# Altium footprint library ARES_R30_Power.PcbLib: 67 footprints (part 3 of 5)
Each footprint in its own frame and in the unit in brackets; x right, y up, seen from the top. Pads: shape width x height; smd on the part's side, far side on the other; paste and mask are expansions set on the pad; w line width, h text height; cw(c..) or ccw(c..) is an arc to the next point about the centre after c.
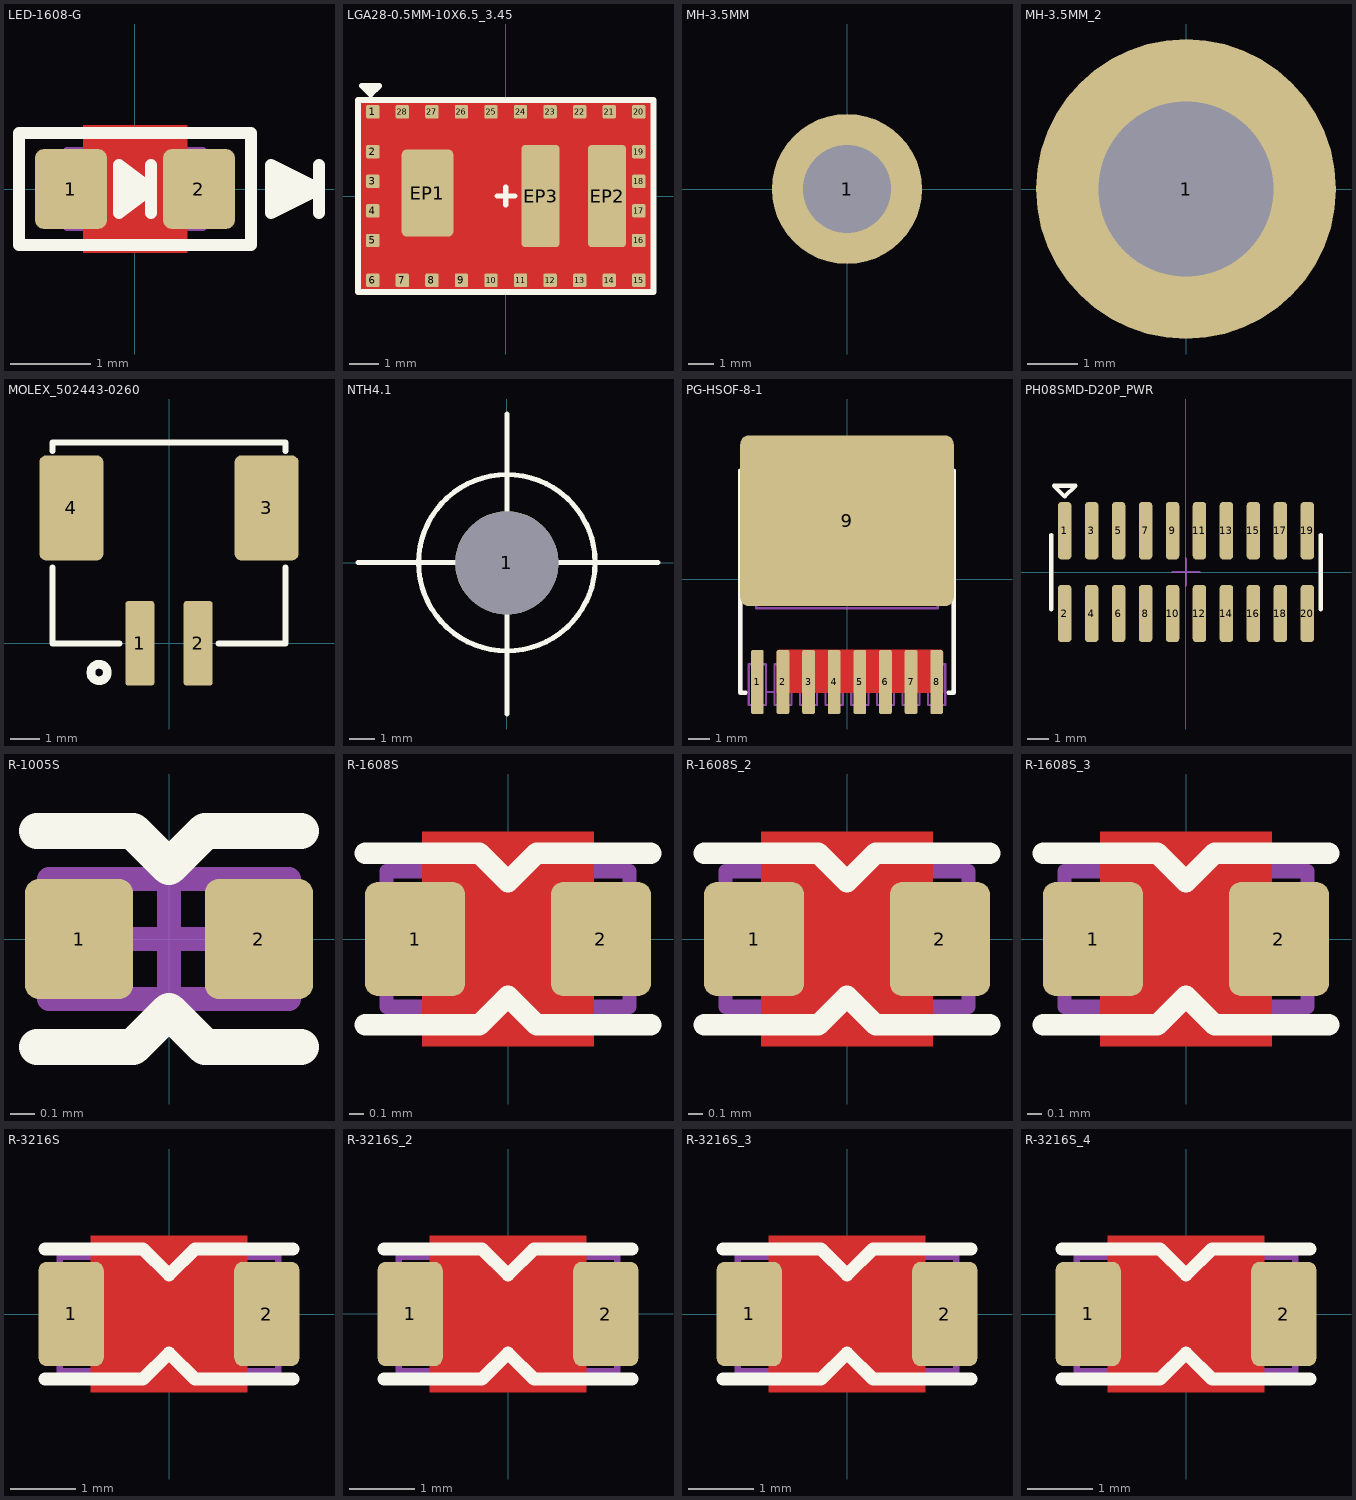
[diagram p2: the footprints below, top view; thin cyan lines are the x and y axes]

## LED-1608-G [mm] "Green"
height 0.6
pads (2):
  rrect25% 0.9x1 smd: 1(-0.8,0) 2(0.8,0)
Top Layer:
  pour cut-out: -0.65,0.8 0.65,0.8 0.65,-0.8 -0.65,-0.8
Top Overlay:
  region: 1.7,0.3 1.7,-0.3 2.3,0
  region: 0.2,0 -0.2,0.3 -0.2,-0.3
  lines w0.15: 0.2,-0.3 0.2,0.3 ; 2.3,-0.3 2.3,0.3 ; -1.45,-0.7 -1.45,0.7 1.45,0.7 1.45,-0.7 -1.45,-0.7 ; -0.2,-0.3 0.2,0 -0.2,0.3 -0.2,-0.3 ; 1.7,-0.3 1.7,0.3 2.3,0 1.7,-0.3
Mechanical 11:
  lines w0.1: -0.85,-0.475 -0.85,0.475 0.85,0.475 0.85,-0.475 -0.85,-0.475
Mechanical 15:
  lines w0.1: -0.475,0 0.475,0 ; 0,-0.475 0,0.475
3D body: height 0.2, standoff 0, extent 0.5,-0.4 0.8,0.4
3D body: height 0.2, standoff 0, extent -0.8,-0.4 -0.5,0.4
3D body: height 0.4, standoff 0.2, extent -0.5,-0.4 0.5,0.4
3D body: height 0.2, standoff 0, extent -0.5,-0.4 0.5,0.4

## LGA28-0.5MM-10X6.5_3.45 [mm]
pads (31):
  rrect20% 0.45x0.45 smd: 1(-4.5,2.85) 2(-4.5,1.5) 3(-4.5,0.5) 4(-4.5,-0.5) 5(-4.5,-1.5) 6(-4.5,-2.85) 7(-3.5,-2.85) 8(-2.5,-2.85) 9(-1.5,-2.85) 10(-0.5,-2.85) 11(0.5,-2.85) 12(1.5,-2.85) 13(2.5,-2.85) 14(3.5,-2.85) 15(4.5,-2.85) 16(4.5,-1.5) 17(4.5,-0.5) 18(4.5,0.5) 19(4.5,1.5) 20(4.5,2.85) 21(3.5,2.85) 22(2.5,2.85) 23(1.5,2.85) 24(0.5,2.85) 25(-0.5,2.85) 26(-1.5,2.85) 27(-2.5,2.85) 28(-3.5,2.85)
  rrect20% 1.75x2.95 smd: EP1(-2.65,0.1)
  rrect20% 1.3x3.45 smd: EP2(3.425,0) EP3(1.175,0)
Top Layer:
  pour cut-out: -5,3.25 -5,-3.25 5,-3.25 5,3.25
Top Overlay:
  lines w0.18: -4.572,3.529 -4.572,3.649 ; -0.3,0 0.3,0 ; 0,-0.3 0,0.3 ; -4.872,3.729 -4.572,3.429 -4.272,3.729 -4.872,3.729
  lines w0.2: -5,-3.25 5,-3.25 5,3.25 -5,3.25 -5,-3.25

## MH-3.5MM [mm]
pads (1):
  round 6 hole 3.5: 1(0,0)
Multi-Layer:
  pour cut-out: 0,6 -0.295,6 -0.881,5.942 -1.46,5.827 -2.024,5.656 -2.568,5.43 -3.088,5.153 -3.579,4.825 -4.034,4.451 -4.451,4.034 -4.825,3.579 -5.153,3.088 -5.43,2.568 -5.656,2.024 -5.827,1.46 -5.942,0.881 -6,0.295 -6,0 -6,-0.295 -5.942,-0.881 -5.827,-1.46 -5.656,-2.024 -5.43,-2.568 -5.153,-3.088 -4.825,-3.579 -4.451,-4.034 -4.034,-4.451 -3.579,-4.825 -3.088,-5.153 -2.568,-5.43 -2.024,-5.656 -1.46,-5.827 -0.881,-5.942 -0.295,-6 0,-6 0.295,-6 0.881,-5.942 1.46,-5.827 2.024,-5.656 2.568,-5.43 3.088,-5.153 3.579,-4.825 4.034,-4.451 4.451,-4.034 4.825,-3.579 5.153,-3.088 5.43,-2.568 5.656,-2.024 5.827,-1.46 5.942,-0.881 6,-0.295 6,0 6,0.295 5.942,0.881 5.827,1.46 5.656,2.024 5.43,2.568 5.153,3.088 4.825,3.579 4.451,4.034 4.034,4.451 3.579,4.825 3.088,5.153 2.568,5.43 2.024,5.656 1.46,5.827 0.881,5.942 0.295,6
3D body "bolt_3mm.stp": height 1.96, standoff -6, extent -2.75,-2.75 2.75,2.75

## MH-3.5MM_2 [mm]
pads (1):
  round 6 hole 3.5: 1(0,0)
3D body "bolt_3mm.stp": height 1.96, standoff -6, extent -2.75,-2.75 2.75,2.75

## MOLEX_502443-0260 [mm]
pads (4):
  rrect20% 1x2.9 smd: 1(-1,0) 2(1,0)
  rrect20% 2.2x3.6 smd: 3(3.35,4.65) 4(-3.35,4.65)
Top Overlay:
  circle w0.3: c-2.4,-1 r0.283
  lines w0.2: -4,2.6 -4,0 -1.7,0 ; -4,6.6 -4,6.9 4,6.9 4,6.6 ; 1.7,0 4,0 4,2.6
3D body "5024430260.stp": height 7.53, standoff 0.03, extent -4,-0.95 4,6.9

## NTH4.1 [mm]
height 4
pads (1):
  round 4.1 hole 4.1 unplated: 1(0,-0.008)
Top Overlay:
  circle w0.203: c0,0 r3.5
  lines w0.2: -5.908,0.008 5.992,0.008 ; 0.008,-6 0.008,5.9
Multi-Layer:
  pour cut-out: 0.008,5.05 -0.001,5.05 0.327,5.05 0.977,4.964 1.61,4.795 2.216,4.544 2.783,4.216 3.303,3.817 3.767,3.353 4.166,2.833 4.494,2.266 4.745,1.66 4.914,1.027 5,0.377 5,0.049 5,-0.058 5,-0.385 4.915,-1.034 4.745,-1.666 4.495,-2.271 4.168,-2.837 3.769,-3.357 3.307,-3.819 2.787,-4.218 2.221,-4.545 1.616,-4.795 0.984,-4.965 0.335,-5.05 0.008,-5.05 -0.32,-5.05 -0.971,-4.964 -1.605,-4.794 -2.212,-4.543 -2.78,-4.215 -3.301,-3.815 -3.765,-3.351 -4.165,-2.83 -4.493,-2.262 -4.744,-1.655 -4.914,-1.021 -5,-0.37 -5,-0.042 -5,0.042 -5,0.37 -4.914,1.021 -4.744,1.655 -4.493,2.262 -4.165,2.83 -3.765,3.351 -3.301,3.815 -2.78,4.215 -2.212,4.543 -1.605,4.794 -0.971,4.964 -0.32,5.05
3D body: height 4, standoff 0, extent -2.78,-2.777 2.78,2.777

## PG-HSOF-8-1 [mm] "OptiMOSTM Power-Transistor"
height 2.3
pads (9):
  rrect30% 0.6x3 smd: 1(-4.2,-4.8) 2(-3,-4.8) 3(-1.8,-4.8) 4(-0.6,-4.8) 5(0.6,-4.8) 6(1.8,-4.8) 7(3,-4.8) 8(4.2,-4.8)
  rrect10% 10x8 smd: 9(0,2.75)
Top Layer:
  region: -3.3,-3.4 -3.2,-3.3 4.4,-3.3 4.5,-3.4 4.5,-5.3 -3.3,-5.3
Top Overlay:
  lines w0.2: -5,5.1 -5,-5.3 -4.75,-5.3 ; 4.75,-5.3 5,-5.3 5,5.1
Mechanical 12:
  drawing of 161 lines, arcs and shapes, not listed
3D body: height 2.3, standoff 0.2, extent -4.95,-5.284 4.95,5.091
3D body: height 0.5, standoff 0, extent -3.4,-4.7 4.6,-3.97
3D body: height 0.5, standoff 0, extent 3.8,-5.87 4.6,-3.97
3D body: height 0.5, standoff 0, extent 2.6,-5.87 3.4,-3.97
3D body: height 0.5, standoff 0, extent 1.4,-5.87 2.2,-3.97
3D body: height 0.5, standoff 0, extent 0.2,-5.87 1,-3.97
3D body: height 0.5, standoff 0, extent -1,-5.87 -0.2,-3.97
3D body: height 0.5, standoff 0, extent -2.2,-5.87 -1.4,-3.97
3D body: height 0.5, standoff 0, extent -3.4,-5.87 -2.6,-3.97
3D body: height 0.5, standoff 0, extent -4.6,-5.87 -3.8,-3.97
3D body: height 0.5, standoff 0, extent -4.9,-1.345 4.9,5.8

## PH08SMD-D20P_PWR [mm] "1.27mm pitch SMD 2row pin header"
height 2.54
pads (20):
  rrect50% 0.635x2.7 smd: 1(-5.715,1.95) 2(-5.715,-1.95) 3(-4.445,1.95) 4(-4.445,-1.95) 5(-3.175,1.95) 6(-3.175,-1.95) 7(-1.905,1.95) 8(-1.905,-1.95) 9(-0.635,1.95) 10(-0.635,-1.95) 11(0.635,1.95) 12(0.635,-1.95) 13(1.905,1.95) 14(1.905,-1.95) 15(3.175,1.95) 16(3.175,-1.95) 17(4.445,1.95) 18(4.445,-1.95) 19(5.715,1.95) 20(5.715,-1.95)
Top Overlay:
  lines w0.2: -6.35,-1.75 -6.35,1.75 ; 6.35,-1.75 6.35,1.75 ; -6.223,4.064 -5.715,3.556 -5.207,4.064 -6.223,4.064
Mechanical 15:
  lines w0.1: -0.635,0 0.635,0 ; 0,-0.635 0,0.635
3D body "C11272-S022-18.STEP": height 2.2, standoff 0, extent -6.35,-1.75 5.08,1.75
3D body "C11272-S022-18.STEP": height 2.2, standoff 0, extent -5.08,-1.75 6.35,1.75

## R-1005S [mm] "0402 Chip Resistor"
height 0.4
pads (2):
  rrect25% 0.45x0.5 smd: 1(-0.375,0) 2(0.375,0)
Top Overlay:
  lines w0.15: -0.55,-0.45 -0.15,-0.45 0,-0.3 0.15,-0.45 0.55,-0.45 ; -0.55,0.45 -0.15,0.45 0,0.3 0.15,0.45 0.55,0.45
Mechanical 11:
  lines w0.1: -0.5,-0.25 0.5,-0.25 0.5,0.25 -0.5,0.25 -0.5,-0.25
Mechanical 15:
  lines w0.1: -0.25,0 0.25,0 ; 0,-0.25 0,0.25
3D body "User Library-Chip Resistor 1005.step": height 0.4, standoff 0, extent -0.5,-0.25 0.5,0.25

## R-1608S [mm] "0603 Chip Resistor"
height 0.6
pads (2):
  rrect25% 0.7x0.8 smd: 1(-0.65,0) 2(0.65,0)
Top Layer:
  pour cut-out: -0.6,0.75 0.6,0.75 0.6,-0.75 -0.6,-0.75
Top Overlay:
  lines w0.15: -1,-0.6 -0.2,-0.6 0,-0.4 0.2,-0.6 1,-0.6 ; -1,0.6 -0.2,0.6 0,0.4 0.2,0.6 1,0.6
Mechanical 11:
  lines w0.1: -0.85,-0.475 0.85,-0.475 0.85,0.475 -0.85,0.475 -0.85,-0.475
Mechanical 15:
  lines w0.1: -0.475,0 0.475,0 ; 0,-0.475 0,0.475
3D body "User Library-Chip Resistor 1608.step": height 0.55, standoff 0, extent -0.8,-0.4 0.8,0.4

## R-1608S_2 [mm]
pads (2):
  rrect25% 0.7x0.8 smd: 1(-0.65,0) 2(0.65,0)
Top Layer:
  pour cut-out: -0.6,0.75 0.6,0.75 0.6,-0.75 -0.6,-0.75
Top Overlay:
  lines w0.15: -1,-0.6 -0.2,-0.6 0,-0.4 0.2,-0.6 1,-0.6 ; -1,0.6 -0.2,0.6 0,0.4 0.2,0.6 1,0.6
Mechanical 11:
  lines w0.1: -0.85,-0.475 0.85,-0.475 0.85,0.475 -0.85,0.475 -0.85,-0.475
Mechanical 15:
  lines w0.1: -0.475,0 0.475,0 ; 0,-0.475 0,0.475
3D body "User Library-Chip Resistor 1608.step": height 0.55, standoff 0, extent -0.8,-0.4 0.8,0.4

## R-1608S_3 [mm]
pads (2):
  rrect25% 0.7x0.8 smd: 1(-0.65,0) 2(0.65,0)
Top Layer:
  pour cut-out: -0.6,0.75 0.6,0.75 0.6,-0.75 -0.6,-0.75
Top Overlay:
  lines w0.15: -1,-0.6 -0.2,-0.6 0,-0.4 0.2,-0.6 1,-0.6 ; -1,0.6 -0.2,0.6 0,0.4 0.2,0.6 1,0.6
Mechanical 11:
  lines w0.1: -0.85,-0.475 0.85,-0.475 0.85,0.475 -0.85,0.475 -0.85,-0.475
Mechanical 15:
  lines w0.1: -0.475,0 0.475,0 ; 0,-0.475 0,0.475
3D body "User Library-Chip Resistor 1608.step": height 0.55, standoff 0, extent -0.8,-0.4 0.8,0.4

## R-3216S [mm] "1206 Chip Resistor"
height 0.75
pads (2):
  rrect25% 1x1.6 smd: 1(-1.5,0) 2(1.5,0)
Top Layer:
  pour cut-out: -1.2,1.2 1.2,1.2 1.2,-1.2 -1.2,-1.2
Top Overlay:
  lines w0.2: -1.9,-1 -0.4,-1 0,-0.6 0.4,-1 1.9,-1 ; -1.9,1 -0.4,1 0,0.6 0.4,1 1.9,1
Mechanical 11:
  lines w0.1: -1.675,-0.875 1.675,-0.875 1.675,0.875 -1.675,0.875 -1.675,-0.875
Mechanical 15:
  lines w0.1: -0.5,0 0.5,0 ; 0,-0.5 0,0.5
3D body "User Library-Chip Resistor 3216.step": height 0.65, standoff 0, extent -1.6,-0.8 1.6,0.8

## R-3216S_2 [mm]
pads (2):
  rrect25% 1x1.6 smd: 1(-1.5,0) 2(1.5,0)
Top Layer:
  pour cut-out: -1.2,1.2 1.2,1.2 1.2,-1.2 -1.2,-1.2
Top Overlay:
  lines w0.2: -1.9,-1 -0.4,-1 0,-0.6 0.4,-1 1.9,-1 ; -1.9,1 -0.4,1 0,0.6 0.4,1 1.9,1
Mechanical 11:
  lines w0.1: -1.675,-0.875 -1.675,0.875 1.675,0.875 1.675,-0.875 -1.675,-0.875
Mechanical 15:
  lines w0.1: -0.5,0 0.5,0 ; 0,-0.5 0,0.5
3D body "User Library-Chip Resistor 3216.step": height 0.65, standoff 0, extent -1.6,-0.8 1.6,0.8

## R-3216S_3 [mm]
pads (2):
  rrect25% 1x1.6 smd: 1(-1.5,0) 2(1.5,0)
Top Layer:
  pour cut-out: -1.2,1.2 1.2,1.2 1.2,-1.2 -1.2,-1.2
Top Overlay:
  lines w0.2: -1.9,-1 -0.4,-1 0,-0.6 0.4,-1 1.9,-1 ; -1.9,1 -0.4,1 0,0.6 0.4,1 1.9,1
Mechanical 11:
  lines w0.1: -1.675,-0.875 -1.675,0.875 1.675,0.875 1.675,-0.875 -1.675,-0.875
Mechanical 15:
  lines w0.1: -0.5,0 0.5,0 ; 0,-0.5 0,0.5
3D body "User Library-Chip Resistor 3216.step": height 0.65, standoff 0, extent -1.6,-0.8 1.6,0.8

## R-3216S_4 [mm]
pads (2):
  rrect25% 1x1.6 smd: 1(-1.5,0) 2(1.5,0)
Top Layer:
  pour cut-out: -1.2,1.2 1.2,1.2 1.2,-1.2 -1.2,-1.2
Top Overlay:
  lines w0.2: -1.9,-1 -0.4,-1 0,-0.6 0.4,-1 1.9,-1 ; -1.9,1 -0.4,1 0,0.6 0.4,1 1.9,1
Mechanical 11:
  lines w0.1: -1.675,-0.875 1.675,-0.875 1.675,0.875 -1.675,0.875 -1.675,-0.875
Mechanical 15:
  lines w0.1: -0.5,0 0.5,0 ; 0,-0.5 0,0.5
3D body "User Library-Chip Resistor 3216.step": height 0.65, standoff 0, extent -1.6,-0.8 1.6,0.8